# Altium footprint library M200501.PcbLib: 1 footprints
Each footprint in its own frame and in the unit in brackets; x right, y up, seen from the top. Pads: shape width x height; smd on the part's side, far side on the other; paste and mask are expansions set on the pad; w line width, h text height; cw(c..) or ccw(c..) is an arc to the next point about the centre after c.
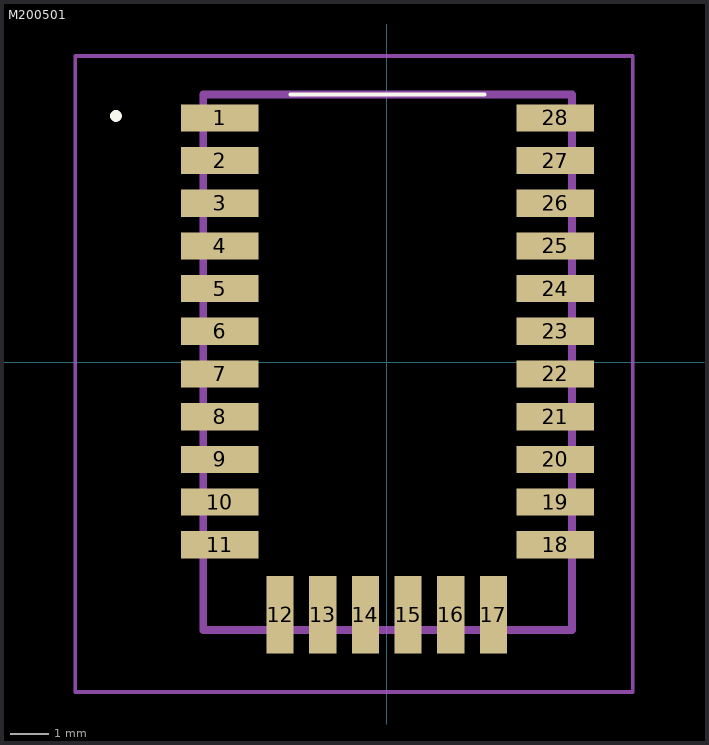
[diagram p0: the footprint, top view; thin cyan lines are the x and y axes]

## M200501 [mm]
pads (28):
  rect 2x0.7 smd: 1(-4.3,6.3) 2(-4.3,5.2) 3(-4.3,4.1) 4(-4.3,3) 5(-4.3,1.9) 6(-4.3,0.8) 7(-4.3,-0.3) 8(-4.3,-1.4) 9(-4.3,-2.5) 10(-4.3,-3.6) 11(-4.3,-4.7) 18(4.34,-4.7) 19(4.34,-3.6) 20(4.34,-2.5) 21(4.34,-1.4) 22(4.34,-0.3) 23(4.34,0.8) 24(4.34,1.9) 25(4.34,3) 26(4.34,4.1) 27(4.34,5.2) 28(4.34,6.3)
  rect 0.7x2 smd: 12(-2.75,-6.5) 13(-1.65,-6.5) 14(-0.55,-6.5) 15(0.55,-6.5) 16(1.65,-6.5) 17(2.75,-6.5)
Top Overlay:
  lines w0.1: -2.48,6.9 2.52,6.9 ; -2.48,6.9 2.52,6.9 ; -2.48,6.9 -2.48,6.9 ; 2.52,6.9 2.52,6.9
  lines w0.2: -6.98,6.3 -6.98,6.3 ; -6.98,6.3 ccw(c-6.98,6.35) -6.98,6.4 ; -6.98,6.3 cw(c-6.98,6.35) -6.98,6.4 ; -6.98,6.3 -6.98,6.3 ; -6.98,6.3 ccw(c-6.98,6.35) -6.98,6.4 ; -6.98,6.4 -6.98,6.4
Mechanical 15:
  lines w0.2: -4.73,-6.9 4.77,-6.9 4.77,6.9 -4.73,6.9 -4.73,-6.9
Mechanical 20:
  lines w0.1: -8.03,-8.5 6.34,-8.5 6.34,7.9 -8.03,7.9 -8.03,-8.5